# Altium footprint library Power_IC#csv.PcbLib: 5 footprints
Each footprint in its own frame and in the unit in brackets; x right, y up, seen from the top. Pads: shape width x height; smd on the part's side, far side on the other; paste and mask are expansions set on the pad; w line width, h text height; cw(c..) or ccw(c..) is an arc to the next point about the centre after c.
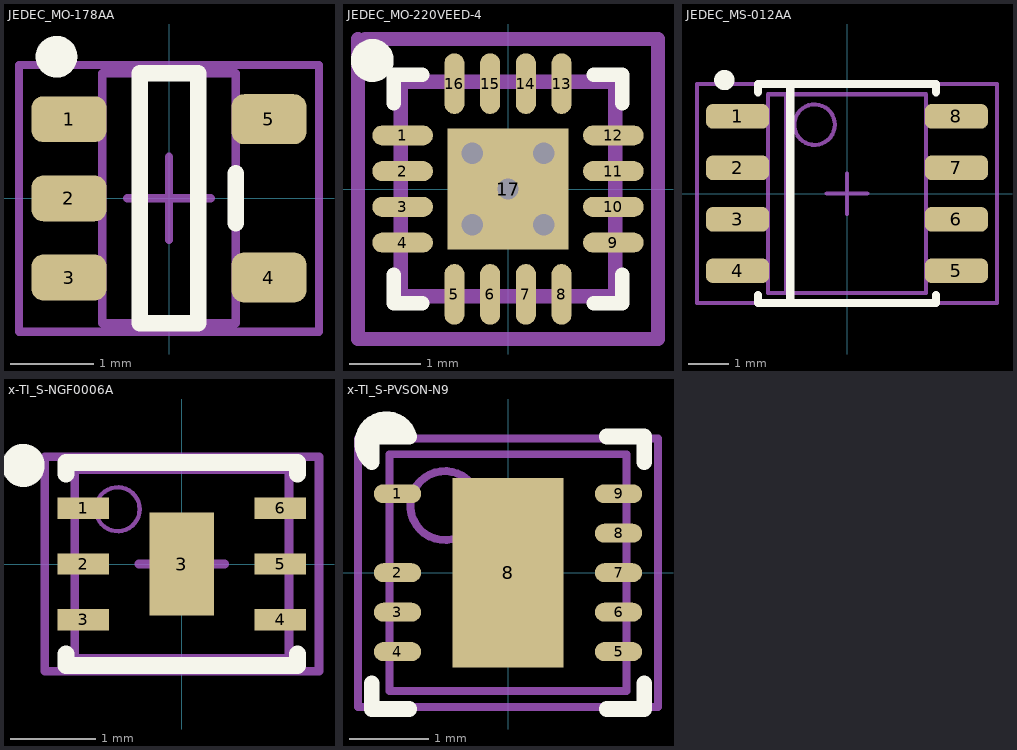
[diagram p0: the footprints below, top view; thin cyan lines are the x and y axes]

## JEDEC_MO-178AA [mm] "SOT753, 5-Leads, Body 3x1.6mm, Pitch 0.95mm, Lead Span 2.8mm, IPC High Density"
height 1.1
pads (5):
  rrect50% 0.9x0.55 smd: 1(-1.2,0.95) 2(-1.2,0) 3(-1.2,-0.95)
  rrect50% 0.9x0.6 smd: 4(1.2,-0.95) 5(1.2,0.95)
Top Overlay:
  circle w0.25: c-1.35,1.7 r0.125
  lines w0.2: 0.8,-0.3 0.8,0.3 ; -0.35,-1.5 -0.35,1.5 0.35,1.5 0.35,-1.5 -0.35,-1.5
Mechanical 13:
  lines w0.1: -0.8,-1.5 -0.8,1.5 0.8,1.5 0.8,-1.5 -0.8,-1.5
Mechanical 15:
  lines w0.1: -0.5,0 0.5,0 ; 0,-0.5 0,0.5 ; -1.8,-1.6 -1.8,1.6 1.8,1.6 1.8,-1.6 -1.8,-1.6
3D body: height 1.1, standoff 0, extent -0.799,-1.499 0.799,1.499

## JEDEC_MO-220VEED-4 [mm] "QFN, 3x3mm, 16 lead, exposed pad"
height 1
pads (17):
  oval 0.85x0.28 smd mask+0.07: 1(-1.475,0.75) 2(-1.475,0.25) 3(-1.475,-0.25) 4(-1.475,-0.75) 9(1.475,-0.75) 10(1.475,-0.25) 11(1.475,0.25) 12(1.475,0.75)
  oval 0.28x0.85 smd mask+0.07: 5(-0.75,-1.475) 6(-0.25,-1.475) 7(0.25,-1.475) 8(0.75,-1.475) 13(0.75,1.475) 14(0.25,1.475) 15(-0.25,1.475) 16(-0.75,1.475)
  rect 1.7x1.7 smd paste-5 mask+0.07: 17(0,0)
via 0,0 diameter 0.6 hole 0.3
via -0.5,0.5 diameter 0.6 hole 0.3
via 0.5,0.5 diameter 0.6 hole 0.3
via 0.5,-0.5 diameter 0.6 hole 0.3
via -0.5,-0.5 diameter 0.6 hole 0.3
Top Overlay:
  circle w0.4: c-1.9,1.8 r0.1
  lines w0.2: -1.6,-1.2 -1.6,-1.6 -1.2,-1.6 ; -1.6,1.2 -1.6,1.6 -1.2,1.6 ; 1.2,-1.6 1.6,-1.6 1.6,-1.2 ; 1.2,1.6 1.6,1.6 1.6,1.2
Top Paste:
  rectangle: -0.8,0.1 -0.1,0.8
  rectangle: 0.1,0.1 0.8,0.8
  region: -0.1,-0.1 -0.8,-0.1 -0.8,-0.8 -0.1,-0.8
  region: 0.8,-0.1 0.1,-0.1 0.1,-0.8 0.8,-0.8
Mechanical 13:
  lines w0.2: -1.5,-1.5 -1.5,1.5 1.5,1.5 1.5,-1.5 -1.5,-1.5
Mechanical 15:
  lines w0.2: -2.1,2.1 -2.1,-2.1 -2,-2.1 2.1,-2.1 2.1,2.1 -2,2.1 ; -0.5,0 0.5,0 ; 0,-0.5 0,0.5
3D body: height 1, standoff 0, extent -1.499,-1.499 1.499,1.499

## JEDEC_MS-012AA [mm] "SOP, 8-Leads, Body 4x5mm, Pitch 1.27mm, IPC High Density"
height 1.7
pads (8):
  rrect50% 1.55x0.6 smd: 1(-2.7,1.905) 2(-2.7,0.635) 3(-2.7,-0.635) 4(-2.7,-1.905) 5(2.7,-1.905) 6(2.7,-0.635) 7(2.7,0.635) 8(2.7,1.905)
Top Overlay:
  circle w0.25: c-3.025,2.8 r0.125
  lines w0.2: -2.2,-2.5 -2.2,-2.7 1.2,-2.7 2.2,-2.7 2.2,-2.5 ; -2.2,2.5 -2.2,2.7 -1.2,2.7 2.2,2.7 2.2,2.5 ; -1.4,-2.7 -1.4,2.7
Mechanical 13:
  circle w0.1: c-0.8,1.7 r0.5
  lines w0.1: -1.5,-2.45 -1.5,2.45 ; -1.95,-2.45 -1.95,2.45 1.95,2.45 1.95,-2.45 -1.95,-2.45
Mechanical 15:
  lines w0.1: -0.5,0 0.5,0 ; 0,-0.5 0,0.5 ; -3.7,-2.7 -3.7,2.7 3.7,2.7 3.7,-2.7 -3.7,-2.7
3D body: height 1.75, standoff 0.1, extent -1.95,-2.45 1.95,2.45

## x-TI_S-NGF0006A [mm] "6-WSON (2.2x2.5)"
pads (7):
  rect 0.6x0.25 smd: 1(-1.15,0.65) 2(-1.15,0) 3(-1.15,-0.65) 4(1.15,-0.65) 5(1.15,0) 6(1.15,0.65)
  rect 0.75x1.2 smd: 3(0,0)
Top Overlay:
  circle w0.4: c-1.85,1.15 r0.05
  lines w0.2: -1.35,-1.05 -1.35,-1.185 1.35,-1.185 1.35,-1.05 ; -1.35,1.05 -1.35,1.185 1.35,1.185 1.35,1.05
Mechanical 13:
  circle w0.05: c-0.748,0.639 r0.256
  lines w0.1: -1.25,-1.1 -1.25,1.1 1.25,1.1 1.25,-1.1 -1.25,-1.1
Mechanical 15:
  lines w0.1: -0.5,0 0.5,0 ; 0,-0.5 0,0.5 ; -1.6,-1.25 -1.6,1.25 1.6,1.25 1.6,-1.25 -1.6,-1.25
3D body: height 0.8, standoff 0, extent -1.25,-1.1 1.25,1.1

## x-TI_S-PVSON-N9 [mm] "9-SON (3x3)"
pads (10):
  oval 0.6x0.24 smd mask+0.07: 1(-1.4,1) 2(-1.4,0) 3(-1.4,-0.5) 4(-1.4,-1) 5(1.4,-1) 6(1.4,-0.5) 7(1.4,0) 8(1.4,0.5) 9(1.4,1)
  rect 1.4x2.4 smd paste-1 mask+0.07: 8(0,0)
Top Overlay:
  lines w0.2: -1.725,-1.4 -1.725,-1.725 -1.25,-1.725 ; -1.725,1.805 -1.336,1.805 ; 1.25,-1.725 1.725,-1.725 1.725,-1.4 ; 1.25,1.725 1.725,1.725 1.725,1.4 ; -1.725,1.4 cw(c-1.542,1.642) -1.25,1.725 -1.725,1.725 -1.725,1.4
Top Paste:
  region: 0.625,-0.1 -0.625,-0.1 -0.625,-1.125 0.625,-1.125
  rectangle: -0.625,0.1 0.625,1.125
Mechanical 13:
  circle w0.1: c-0.8,0.85 r0.437
  lines w0.1: -1.5,-1.5 -1.5,1.5 1.5,1.5 1.5,-1.5 -1.5,-1.5
Mechanical 15:
  lines w0.1: -0.5,0 0.5,0 ; 0,-0.5 0,0.5 ; -1.9,-1.7 1.9,-1.7 1.9,1.7 -1.9,1.7 -1.9,-1.7
3D body: height 0.9, standoff 0, extent -1.5,-1.5 1.5,1.5